# EAGLE library part KEW_HF_V13_M_1R10KW (library KEW_HF_V16)
Pin header, male, 1 row
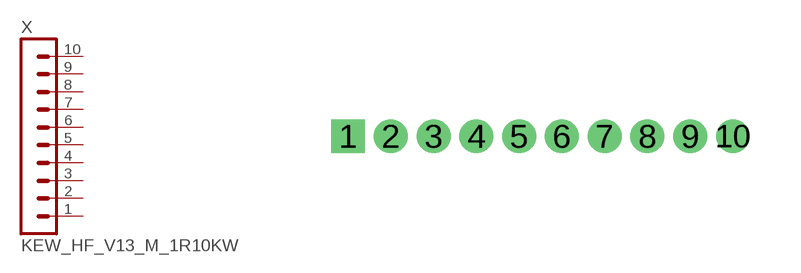
[diagram p1: symbol with the pads of KEW_HF_V13_M_1R09_50MIL-H; footprint KEW_HF_V13_M_1R09_50MIL-H]

Designator prefix X

## KEW_HF_V13_M_1R10KW_50MIL-H  [KEW_HF_V13_M_1R09_50MIL-H]
1  1
2  2
3  3
4  4
5  5
6  6
7  7
8  8
9  9
10  10

## Footprint KEW_HF_V13_M_1R09_50MIL-H (pad centres in mm)
Pin header, male, 1 row, pitch 50 mil, horizontal (side entry type, angled solder pins) square pins 0.4 mm
drill 0.5 pad 0.813 square: 1 -5.08,0
drill 0.5 pad 0.813: 2 -3.81,0; 3 -2.54,0; 4 -1.27,0; 5 0,0; 6 1.27,0; 7 2.54,0; 8 3.81,0; 9 5.08,0; 10 6.35,0